# EAGLE library part RCA_DUAL_CARDAS (library wheat)
DUAL RCA CONNECTOR, CARDAS
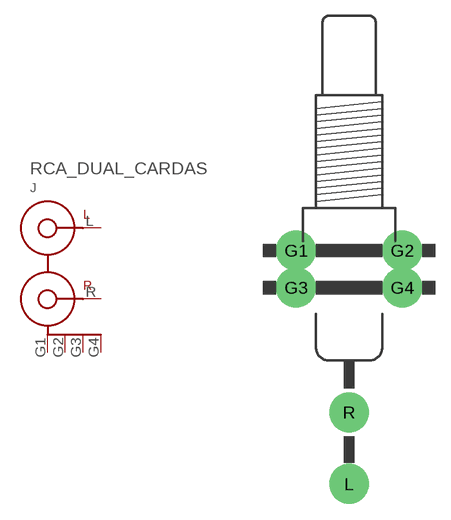
[diagram p75: symbol with the pads of RCA_DUAL_CARDAS; footprint RCA_DUAL_CARDAS]

Designator prefix J

## RCA_DUAL_CARDAS  [RCA_DUAL_CARDAS]
G1  G1  pas
G2  G2  pas
G3  G3  pas
G4  G4  pas
L  L  pas
R  R  pas

## Footprint RCA_DUAL_CARDAS (pad centres in mm)
dual rca connector, cardas
drill 1.93 pad 3.81: G1 -5.08,-4.064; G2 5.08,-4.064; G3 -5.08,-7.62; G4 5.08,-7.62; L 0,-26.416; R 0,-19.558